# Altium integrated library Infineon_Power_Supply_Voltage_Regulator.IntLib: 346 symbols (part 16 of 16)
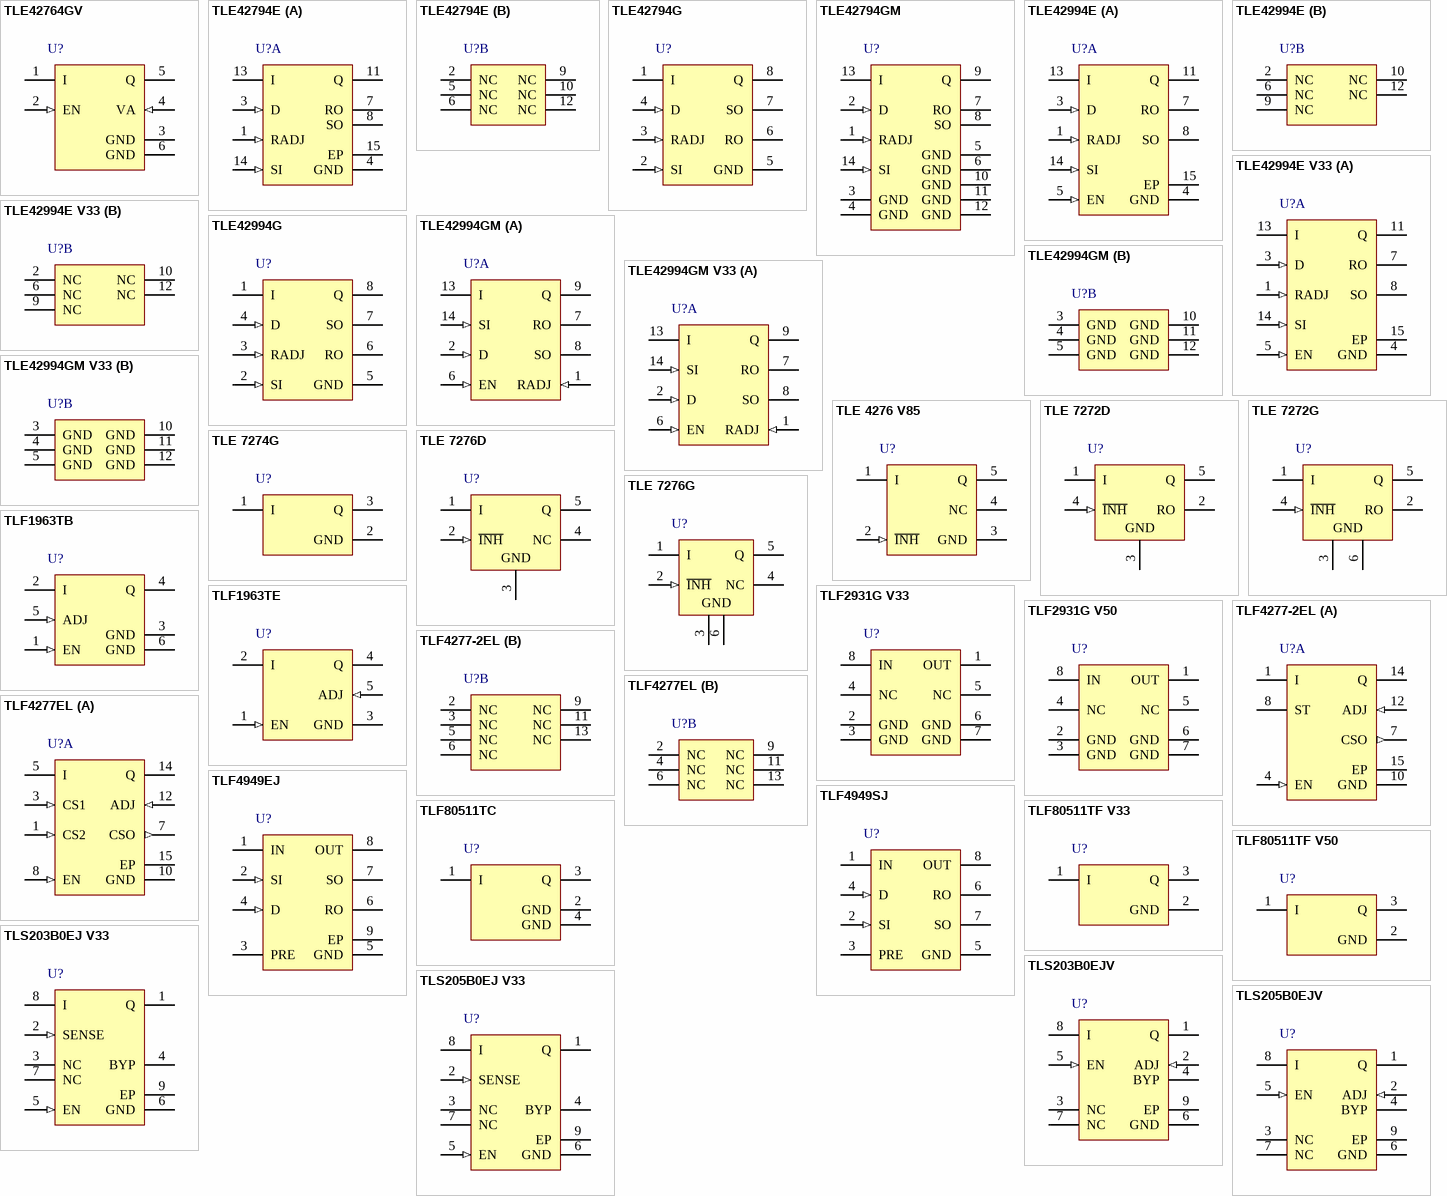
[diagram p24: symbols TLE42764GV to TLS205B0EJV]

## TLF4277EL
designator U?
Low Drop Linear Voltage Regulator Integrated Current Monitor, 5 to 40 V Supply, 5 to 12 V Adjustable Output, -40 to 150 degC, PG-SSOP-14, Reel, Green; Manufacturer: Infineon; PartNumber: TLF4277EL; Accuracy: 2 %; Dropout Voltage: 250 mV; Green: TRUE; Max. Output Current: 200 mA; Operating Range: 5 to 40 V; Output Voltage: adj.; Regulator Type: single output; Typical Quiescent Current: 140 uA; DatasheetVersion: Rev. 1.02; PackageVersion: Oct-08; PackageReference: PG-SSOP-14; PackageDescription: 14-Pin Plastic (Green) Shrink Small Outline Package, 4.9 x 3.9 mm Body, 0.65 mm Pitch; Supplier 1: Mouser; Supplier Part Number 1: 726-TLF4277EL; Supplier 2: Digi-Key; Supplier Part Number 2: TLF4277EL-ND; Halogen-free: TRUE; Packing: Reel; Mounting Technology: Surface Mount; ComponentLink1Description: Manufacturer URL; ComponentLink1URL: http://www.infineon.com/; ComponentLink2Description: Datasheet; ComponentLink2URL: http://www.infineon.com/dgdl/TLF4277_DS-102.pdf?folderId=db3a304318f3fe290118f5a433570040&fileId=db3a304327b897500128013b52a437dd&location=en.Products.Automotive_ICs.Linear_Voltage_Regulators_for_Automotive-Applications.Linear_Voltage_Regulators_-_Selection_Table.DATASHEET.TLF4277_DS-102.pdf; ComponentLink3Description: Package Specification; ComponentLink3URL: http://www.infineon.com/dgdl/ILD1151-Data-Sheet-11-Infineon.pdf?folderId=db3a30431f848401011fcbf2ab4c04c4&fileId=db3a304330046413013031216f2b20e1&location=en.Products.LED_Drivers___Lighting_ICs.LED_Driver_for_Outdoor_Lighting___Indoor_Lighting.LED_Driver__Product_portfolio_and_Information.DATASHEET.ILD1151-Data-Sheet-11-Infineon.pdf
footprint INF-PG-SSOP-14_N (SOP, 14-Leads, Body 4.9x3.9mm, Pitch 0.65mm, Thermal Pad 3.2x2.75mm, IPC Medium Density)
footprint INF-PG-SSOP-14_L (SOP, 14-Leads, Body 4.9x3.9mm, Pitch 0.65mm, Thermal Pad 3.2x2.85mm, IPC High Density)
footprint INF-PG-SSOP-14_M (SOP, 14-Leads, Body 4.9x3.9mm, Pitch 0.65mm, Thermal Pad 3.2x2.55mm, IPC Low Density)
part A pins: 1 CS2 (in) "Current Sense In 2 current monitor and power stage input", 3 CS1 (in) "Current Sense In 1 current monitor input", 5 I (power) "IC Supply Place a capacitor from I (Pin 5) to GND close to the IC for compensating line influences.", 7 CSO (out) "Current Sense Out current monitor and status output", 8 EN (in) "Enable high signal enables the regulator; low signal disables the regulator; connect to I, if the Enable function is not needed", 10 GND (power) "Ground connect pin to PCB and heat sink area", 12 ADJ (in) "Voltage Adjust connect an external voltage divider to configure the output voltage", 14 Q (power) "Regulator Output connect a capacitor between Q (Pin 8) and GND close to the IC pins, respecting the values given for its capacitance CQ and ESR in the table Chapter 4.2", 15 EP (power) "Heat sink connect to PCB heat sink area and GND"
part B pins: 2 NC "Not Connected Internally not connected; Connect to PCB GND", 4 NC "Not Connected Internally not connected; Connect to PCB GND", 6 NC "Not Connected Internally not connected; Connect to PCB GND", 9 NC "Not Connected Internally not connected; Connect to PCB GND", 11 NC "Not Connected Internally not connected; Connect to PCB GND", 13 NC "Not Connected Internally not connected; Connect to PCB GND"

## TLF4949EJ
designator U?
5 V Low Drop Linear Voltage Regulator, 5.5 to 28 V Supply, -40 to 125 degC, PG-DSO-8-27, Reel, Green; Manufacturer: Infineon; PartNumber: TLF4949EJ; Accuracy: 2 %; Dropout Voltage: 500 mV; Green: TRUE; Max. Output Current: 100 mA; Operating Range: 5.5 - 28 V; Output Voltage: 5V; Regulator Type: single output; Typical Quiescent Current: 180 uA; DatasheetVersion: Rev. 1.0; PackageVersion: Jun-12; PackageReference: PG-DSO-8-27; PackageDescription: 8-Pin Plastic (Green) Dual Small Outline Package, 4.9 x 3.9 mm Body, 1.27 mm Pitch; Halogen-free: TRUE; Packing: Reel; Mounting Technology: Surface Mount; Code_JEDEC: MS-012; ComponentLink1Description: Manufacturer URL; ComponentLink1URL: http://www.infineon.com/; ComponentLink2Description: Datasheet; ComponentLink2URL: http://www.infineon.com/dgdl/TLF4949-Data-Sheet-10-Infineon.pdf?folderId=db3a30431ddc9372011e26863f92474e&fileId=db3a3043372d5cc8013755115d854fd6&location=en.Products.Automotive_ICs.Linear_Voltage_Regulators_for_Automotive-Applications.Linear_Voltage_Regulators_-_Selection_Table.DATASHEET.TLF4949-Data-Sheet-10-Infineon.pdf; ComponentLink3Description: Package Specification; ComponentLink3URL: http://www.infineon.com/dgdl/ILD4071_DS_V10_November2011.pdf?folderId=db3a30431f848401011fcbf2ab4c04c4&fileId=db3a30433784a04001380498fdf04c32
footprint INF-PG-DSO-8-27_N (SOP, 8-Leads, Body 4.9x3.9mm, Pitch 1.27mm, Thermal Pad 3.2x2.85mm, IPC Medium Density)
footprint INF-PG-DSO-8-27_L (SOP, 8-Leads, Body 4.9x3.9mm, Pitch 1.27mm, Thermal Pad 3.2x2.85mm, IPC High Density)
footprint INF-PG-DSO-8-27_M (SOP, 8-Leads, Body 4.9x3.9mm, Pitch 1.27mm, Thermal Pad 3.2x2.85mm, IPC Low Density)
pins: 1 IN (power) "Input; block to GND directly at the IC with a ceramic capacitor.", 2 SI (in) "Sense Input; if not needed connect to OUT", 3 PRE (power) "Preregulator Output;", 4 D (in) "Reset Delay; to select delay time, connect to GND via capacitor.", 5 GND (power) "Ground", 6 RO (oc) "Reset Output; open-collector output. Keep open, if not needed.", 7 SO (oc) "Sense Output; open-collector output. Keep open, if not needed.", 8 OUT (power) "5-V Output; connect to GND with a capacitor >= 4.7uF, ESR < 10 ohm.", 9 EP (power) "Heat sink connect to PCB heat sink area and GND"

## TLF4949SJ
designator U?
5 V Low Drop Linear Voltage Regulator, 5.5 to 28 V Supply, -40 to 125 degC, PG-DSO-8-16, Reel, Green; Manufacturer: Infineon; PartNumber: TLF4949SJ; Accuracy: 2 %; Dropout Voltage: 500 mV; Green: TRUE; Max. Output Current: 100 mA; Operating Range: 5.5 - 28 V; Output Voltage: 5V; Regulator Type: single output; Typical Quiescent Current: 180 uA; DatasheetVersion: Rev. 1.0; PackageVersion: Mar-07; PackageReference: PG-DSO-8-16; PackageDescription: 8-Pin Plastic (Green) Dual Small Outline Package, 4.9 x 3.9 mm Body, 1.27 mm Pitch; Halogen-free: TRUE; Packing: Reel; Mounting Technology: Surface Mount; ComponentLink1Description: Manufacturer URL; ComponentLink1URL: http://www.infineon.com/; ComponentLink2Description: Datasheet; ComponentLink2URL: http://www.infineon.com/dgdl/TLF4949-Data-Sheet-10-Infineon.pdf?folderId=db3a30431ddc9372011e26863f92474e&fileId=db3a3043372d5cc8013755115d854fd6&location=en.Products.Automotive_ICs.Linear_Voltage_Regulators_for_Automotive-Applications.Linear_Voltage_Regulators_-_Selection_Table.DATASHEET.TLF4949-Data-Sheet-10-Infineon.pdf; ComponentLink3Description: Package Specification; ComponentLink3URL: http://www.infineon.com/dgdl/TLE7259-2GE_DS_rev12.pdf?folderId=db3a3043163797a6011666d32a0c0de1&fileId=db3a3043163797a6011666d4dbb80de2&location=en.Products.Automotive_ICs.Automotive_Transceivers.LIN_Transceivers.DATASHEET.TLE7259-2GE_DS_rev12.pdf
footprint INF-PG-DSO-8-16_N (SOP, 8-Leads, Body 4.9x3.9mm, Pitch 1.27mm, IPC Medium Density)
footprint INF-PG-DSO-8-16_L (SOP, 8-Leads, Body 4.9x3.9mm, Pitch 1.27mm, IPC High Density)
footprint INF-PG-DSO-8-16_M (SOP, 8-Leads, Body 4.9x3.9mm, Pitch 1.27mm, IPC Low Density)
pins: 1 IN (power) "Input; block to GND directly at the IC with a ceramic capacitor.", 2 SI (in) "Sense Input; if not needed connect to OUT", 3 PRE (power) "Preregulator Output;", 4 D (in) "Reset Delay; to select delay time, connect to GND via capacitor.", 5 GND (power) "Ground", 6 RO (oc) "Reset Output; open-collector output. Keep open, if not needed.", 7 SO (oc) "Sense Output; open-collector output. Keep open, if not needed.", 8 OUT (power) "5-V Output; connect to GND with a capacitor >= 4.7uF, ESR < 10 ohm."

## TLF80511TC
designator U?
Low Drop Linear Fixed Voltage Regulator, 3.3 to 45 V Supply, 5 V Output, -40 to 150 degC, PG-TO263-3-1, Reel, Green; Manufacturer: Infineon; PartNumber: TLF80511TC; Accuracy: 2 %; Dropout Voltage: 100 mV; Green: TRUE; Max. Output Current: 400 mA; Output Voltage: 5V; Regulator Type: single output; Typical Quiescent Current: 38 uA; DatasheetVersion: Rev. 1.0; PackageVersion: Jan-10; PackageReference: PG-TO263-3-1; PackageDescription: 3-Pin Plastic (Green) Transistor Single Outline Package, 10 x 9.25 mm Body, 2.54 mm Pitch; Supplier 1: Digi-Key; Supplier Part Number 1: TLF80511TCTR-ND; Supplier 2: Digi-Key; Supplier Part Number 2: TLF80511TCCT-ND; Supplier 3: Digi-Key; Supplier Part Number 3: TLF80511TCDKR-ND; Halogen-free: TRUE; Operating Range: 3.3 to 45 V; Packing: Reel; Mounting Technology: Surface Mount; ComponentLink1Description: Manufacturer URL; ComponentLink1URL: http://www.infineon.com/; ComponentLink2Description: Datasheet; ComponentLink2URL: http://www.infineon.com/dgdl/TLF80511-DS-10-Infineon.pdf?folderId=db3a30431ddc9372011e26863f92474e&fileId=db3a30433899edae0138c2b753a901e6&location=en.Products.Automotive_ICs.Linear_Voltage_Regulators_for_Automotive-Applications.Linear_Voltage_Regulators_-_Selection_Table.DATASHEET.TLF80511-DS-10-Infineon.pdf; ComponentLink3Description: Package Specification; ComponentLink3URL: http://www.infineon.com/dgdl/TLE42744_DS_11.pdf?folderId=db3a304318f3fe290118f5a433570040&fileId=db3a304327b897500128012ccafe37d2&sId=db3a30443d67b5ca013d83f7c0ea327b
footprint INF-PG-TO263-3-1_N (DPAK, 3-Leads, Body 10x9.25mm, Pitch 2.54mm, IPC Medium Density)
footprint INF-PG-TO263-3-1_L (DPAK, 3-Leads, Body 10x9.25mm, Pitch 2.54mm, IPC High Density)
footprint INF-PG-TO263-3-1_M (DPAK, 3-Leads, Body 10x9.25mm, Pitch 2.54mm, IPC Low Density)
pins: 1 I (power) "Input, block to ground directly at the IC with a ceramic capacitor", 2 GND (power) "Ground", 3 Q (power) "Output, block to ground with capacitor CQ>=10uF, ESR<=2.5 ohm", 4 GND (power) "Ground"

## TLF80511TF V33
designator U?
Low Dropout Linear Fixed Voltage Regulator, 3.3 Vout, -40 to 150 degC, PG-TO252-3, Reel, Green; Manufacturer: Infineon; PartNumber: TLF80511TF V33; Dropout Voltage: 130mV; Green: TRUE; Max. Output Current: 400mA; Operating Range: 3.3 to 45 V; Output Voltage: 3.3 V; Reset: FALSE; Typical Quiescent Current: 0.038 mA; DatasheetVersion: Rev. 1.0; PackageVersion: Dec-06; PackageReference: PG-TO252-3-11; PackageDescription: 3-Pin Plastic (Green) Transistor Single Outline Package, 6.5 x 6.12 mm Body, 2.28 mm Pitch; Halogen-free: TRUE; Packing: Reel; Regulator Type: Linear; Status Output: FALSE; Mounting Technology: Surface Mount; ComponentLink1Description: Manufacturer URL; ComponentLink1URL: http://www.infineon.com/; ComponentLink2Description: Datasheet; ComponentLink2URL: http://www.infineon.com/dgdl/TLF80511TF-DS-10-Infineon.pdf?folderId=db3a30431ddc9372011e26863f92474e&fileId=db3a304344134c7a01441b9f99e51a7d; ComponentLink3Description: Package Specification; ComponentLink3URL: http://www.infineon.com/dgdl/TLF80511TF-DS-10-Infineon.pdf?folderId=db3a30431ddc9372011e26863f92474e&fileId=db3a304344134c7a01441b9f99e51a7d
footprint INF-PG-TO252-3-11_N (DPAK, 3-Leads, Body 6.5x6.12mm, Pitch 2.28mm, IPC Medium Density)
footprint INF-PG-TO252-3-11_L (DPAK, 3-Leads, Body 6.5x6.12mm, Pitch 2.28mm, IPC High Density)
footprint INF-PG-TO252-3-11_M (DPAK, 3-Leads, Body 6.5x6.12mm, Pitch 2.28mm, IPC Low Density)
pins: 1 I (power), 2 GND (power), 3 Q (power)

## TLF80511TF V50
designator U?
Low Dropout Linear Fixed Voltage Regulator, 5 Vout, -40 to 150 degC, PG-TO252-3, Reel, Green; Manufacturer: Infineon; PartNumber: TLF80511TF V50; Dropout Voltage: 100mV; Green: TRUE; Max. Output Current: 400mA; Operating Range: 3.3 to 45 V; Output Voltage: 5 V; Reset: FALSE; Typical Quiescent Current: 0.038 mA; DatasheetVersion: Rev. 1.0; PackageVersion: Dec-06; PackageReference: PG-TO252-3-11; PackageDescription: 3-Pin Plastic (Green) Transistor Single Outline Package, 6.5 x 6.12 mm Body, 2.28 mm Pitch; Halogen-free: TRUE; Packing: Reel; Regulator Type: Linear; Status Output: FALSE; Mounting Technology: Surface Mount; ComponentLink1Description: Manufacturer URL; ComponentLink1URL: http://www.infineon.com/; ComponentLink2Description: Datasheet; ComponentLink2URL: http://www.infineon.com/dgdl/TLF80511TF-DS-10-Infineon.pdf?folderId=db3a30431ddc9372011e26863f92474e&fileId=db3a304344134c7a01441b9f99e51a7d; ComponentLink3Description: Package Specification; ComponentLink3URL: http://www.infineon.com/dgdl/TLF80511TF-DS-10-Infineon.pdf?folderId=db3a30431ddc9372011e26863f92474e&fileId=db3a304344134c7a01441b9f99e51a7d
footprint INF-PG-TO252-3-11_N (DPAK, 3-Leads, Body 6.5x6.12mm, Pitch 2.28mm, IPC Medium Density)
footprint INF-PG-TO252-3-11_L (DPAK, 3-Leads, Body 6.5x6.12mm, Pitch 2.28mm, IPC High Density)
footprint INF-PG-TO252-3-11_M (DPAK, 3-Leads, Body 6.5x6.12mm, Pitch 2.28mm, IPC Low Density)
pins: 1 I (power) "Input block to ground directly at the IC with a ceramic capacitor", 2 GND (power) "Heat Slug connect to heatsink area;connect with GND on PCB", 3 Q (power) "Output block to GND with a capacitor close to the IC terminals, respecting the values given for its capacitance CQ and ESR in the table “Functional Range” on Page 7"

## TLS203B0EJ V33
designator U?
Low Dropout Low Noise Linear Voltage Post Regulator, 3.3 Vout, -40 to 125 degC, PG-DSO-8, Reel, Green; Manufacturer: Infineon; PartNumber: TLS203B0EJ V33; Dropout Voltage: 270mV; Green: TRUE; Max. Output Current: 300mA; Operating Range: 2.3 to 20 V; Output Voltage: 3.3 V; Reset: FALSE; Typical Quiescent Current: 30 uA; DatasheetVersion: Rev. 1.1; PackageVersion: V01, 06/2012; PackageReference: PG-DSO-8-27; PackageDescription: 8-Pin Plastic (Green) Dual Small Outline Package, 4.9 x 3.9 mm Body, 1.27 mm Pitch; Halogen-free: TRUE; Packing: Reel; Regulator Type: Linear; Status Output: FALSE; Mounting Technology: Surface Mount; Code_JEDEC: MS-012; ComponentLink1Description: Manufacturer URL; ComponentLink1URL: http://www.infineon.com/; ComponentLink2Description: Datasheet; ComponentLink2URL: http://www.infineon.com/dgdl/TLS203B0-Data-Sheet-11-Infineon.pdf?folderId=db3a304314dca3890115039cf70d0bf0&fileId=db3a304344baa87a0144cfe92d281c47; ComponentLink3Description: Package Specification; ComponentLink3URL: http://www.infineon.com/cms/packages/SMD_-_Surface_Mounted_Devices/P-PG-DSO/P-PG-DSO-08-27.html?__locale=en
footprint INF-PG-DSO-8-27_N (SOP, 8-Leads, Body 4.9x3.9mm, Pitch 1.27mm, Thermal Pad 3.2x2.85mm, IPC Medium Density)
footprint INF-PG-DSO-8-27_L (SOP, 8-Leads, Body 4.9x3.9mm, Pitch 1.27mm, Thermal Pad 3.2x2.85mm, IPC High Density)
footprint INF-PG-DSO-8-27_M (SOP, 8-Leads, Body 4.9x3.9mm, Pitch 1.27mm, Thermal Pad 3.2x2.85mm, IPC Low Density)
pins: 1 Q (power) "Output", 2 SENSE (in) "Output Sense", 3 NC "No Connect", 4 BYP "Bypass", 5 EN (in) "Enable", 6 GND (power) "Ground", 7 NC "No Connect", 8 I (power) "Input", 9 EP (power) "Exposed Pad"

## TLS203B0EJV
designator U?
Low Dropout Low Noise Linear Voltage Post Regulator, Adjustable Vout, -40 to 125 degC, PG-DSO-8, Reel, Green; Manufacturer: Infineon; PartNumber: TLS203B0EJV; Dropout Voltage: 270mV; Green: TRUE; Max. Output Current: 300mA; Operating Range: 2.3 to 20 V; Output Voltage: adj.; Reset: FALSE; Typical Quiescent Current: 30 uA; DatasheetVersion: Rev. 1.1; PackageVersion: V01, 06/2012; PackageReference: PG-DSO-8-27; PackageDescription: 8-Pin Plastic (Green) Dual Small Outline Package, 4.9 x 3.9 mm Body, 1.27 mm Pitch; Supplier 1: Mouser; Supplier Part Number 1: N/A; Halogen-free: TRUE; Packing: Reel; Regulator Type: Linear; Status Output: FALSE; Mounting Technology: Surface Mount; Code_JEDEC: MS-012; ComponentLink1Description: Manufacturer URL; ComponentLink1URL: http://www.infineon.com/; ComponentLink2Description: Datasheet; ComponentLink2URL: http://www.infineon.com/dgdl/TLS203B0-Data-Sheet-11-Infineon.pdf?folderId=db3a304314dca3890115039cf70d0bf0&fileId=db3a304344baa87a0144cfe92d281c47; ComponentLink3Description: Package Specification; ComponentLink3URL: http://www.infineon.com/cms/packages/SMD_-_Surface_Mounted_Devices/P-PG-DSO/P-PG-DSO-08-27.html?__locale=en
footprint INF-PG-DSO-8-27_N (SOP, 8-Leads, Body 4.9x3.9mm, Pitch 1.27mm, Thermal Pad 3.2x2.85mm, IPC Medium Density)
footprint INF-PG-DSO-8-27_L (SOP, 8-Leads, Body 4.9x3.9mm, Pitch 1.27mm, Thermal Pad 3.2x2.85mm, IPC High Density)
footprint INF-PG-DSO-8-27_M (SOP, 8-Leads, Body 4.9x3.9mm, Pitch 1.27mm, Thermal Pad 3.2x2.85mm, IPC Low Density)
pins: 1 Q (power) "Output", 2 ADJ (in) "Adjust", 3 NC "No Connect", 4 BYP "Bypass", 5 EN (in) "Enable", 6 GND (power) "Ground", 7 NC "No Connect", 8 I (power) "Input", 9 EP (power) "Exposed Pad"

## TLS205B0EJ V33
designator U?
Low Dropout Low Noise Linear Voltage Post Regulator, 3.3 Vout, -40 to 125 degC, PG-DSO-8, Reel, Green; Manufacturer: Infineon; PartNumber: TLS205B0EJ V33; Dropout Voltage: 320mV; Green: TRUE; Max. Output Current: 500mA; Operating Range: 2.3 to 20 V; Output Voltage: 3.3 V; Reset: FALSE; Typical Quiescent Current: 30 uA; DatasheetVersion: Rev. 1.1; PackageVersion: V01, 06/2012; PackageReference: PG-DSO-8-27; PackageDescription: 8-Pin Plastic (Green) Dual Small Outline Package, 4.9 x 3.9 mm Body, 1.27 mm Pitch; Halogen-free: TRUE; Packing: Reel; Regulator Type: Linear; Status Output: FALSE; Mounting Technology: Surface Mount; Code_JEDEC: MS-012; ComponentLink1Description: Manufacturer URL; ComponentLink1URL: http://www.infineon.com/; ComponentLink2Description: Datasheet; ComponentLink2URL: http://www.infineon.com/dgdl/TLS205B0-Data-Sheet-11-Infineon.pdf?folderId=db3a304314dca3890115039cf70d0bf0&fileId=db3a304344baa87a0144cfe59d631c42; ComponentLink3Description: Package Specification; ComponentLink3URL: http://www.infineon.com/cms/packages/SMD_-_Surface_Mounted_Devices/P-PG-DSO/P-PG-DSO-08-27.html?__locale=en
footprint INF-PG-DSO-8-27_N (SOP, 8-Leads, Body 4.9x3.9mm, Pitch 1.27mm, Thermal Pad 3.2x2.85mm, IPC Medium Density)
footprint INF-PG-DSO-8-27_L (SOP, 8-Leads, Body 4.9x3.9mm, Pitch 1.27mm, Thermal Pad 3.2x2.85mm, IPC High Density)
footprint INF-PG-DSO-8-27_M (SOP, 8-Leads, Body 4.9x3.9mm, Pitch 1.27mm, Thermal Pad 3.2x2.85mm, IPC Low Density)
pins: 1 Q (power) "Output", 2 SENSE (in) "Output Sense", 3 NC "No Connect", 4 BYP "Bypass", 5 EN (in) "Enable", 6 GND (power) "Ground", 7 NC "No Connect", 8 I (power) "Input", 9 EP (power) "Exposed Pad"

## TLS205B0EJV
designator U?
Low Dropout Low Noise Linear Voltage Post Regulator, Adjustable Vout, -40 to 125 degC, PG-DSO-8, Reel, Green; Manufacturer: Infineon; PartNumber: TLS205B0EJV; Dropout Voltage: 320mV; Green: TRUE; Max. Output Current: 500mA; Operating Range: 2.3 to 20 V; Reset: FALSE; Typical Quiescent Current: 30 uA; DatasheetVersion: Rev. 1.1; PackageVersion: V01, 06/2012; PackageReference: PG-DSO-8-27; PackageDescription: 8-Pin Plastic (Green) Dual Small Outline Package, 4.9 x 3.9 mm Body, 1.27 mm Pitch; Supplier 1: Mouser; Supplier Part Number 1: N/A; Halogen-free: TRUE; Output Voltage: Adjustable; Packing: Reel; Regulator Type: Linear; Status Output: FALSE; Mounting Technology: Surface Mount; Code_JEDEC: MS-012; ComponentLink1Description: Manufacturer URL; ComponentLink1URL: http://www.infineon.com/; ComponentLink2Description: Datasheet; ComponentLink2URL: http://www.infineon.com/dgdl/TLS205B0-Data-Sheet-11-Infineon.pdf?folderId=db3a304314dca3890115039cf70d0bf0&fileId=db3a304344baa87a0144cfe59d631c42; ComponentLink3Description: Package Specification; ComponentLink3URL: http://www.infineon.com/cms/packages/SMD_-_Surface_Mounted_Devices/P-PG-DSO/P-PG-DSO-08-27.html?__locale=en
footprint INF-PG-DSO-8-27_N (SOP, 8-Leads, Body 4.9x3.9mm, Pitch 1.27mm, Thermal Pad 3.2x2.85mm, IPC Medium Density)
footprint INF-PG-DSO-8-27_L (SOP, 8-Leads, Body 4.9x3.9mm, Pitch 1.27mm, Thermal Pad 3.2x2.85mm, IPC High Density)
footprint INF-PG-DSO-8-27_M (SOP, 8-Leads, Body 4.9x3.9mm, Pitch 1.27mm, Thermal Pad 3.2x2.85mm, IPC Low Density)
pins: 1 Q (power) "Output", 2 ADJ (in) "Adjust", 3 NC "No Connect", 4 BYP "Bypass", 5 EN (in) "Enable", 6 GND (power) "Ground", 7 NC "No Connect", 8 I (power) "Input", 9 EP (power) "Exposed Pad"